# Altium footprint library CS1237.PcbLib: 1 footprints
Each footprint in its own frame and in the unit in brackets; x right, y up, seen from the top. Pads: shape width x height; smd on the part's side, far side on the other; paste and mask are expansions set on the pad; w line width, h text height; cw(c..) or ccw(c..) is an arc to the next point about the centre after c.
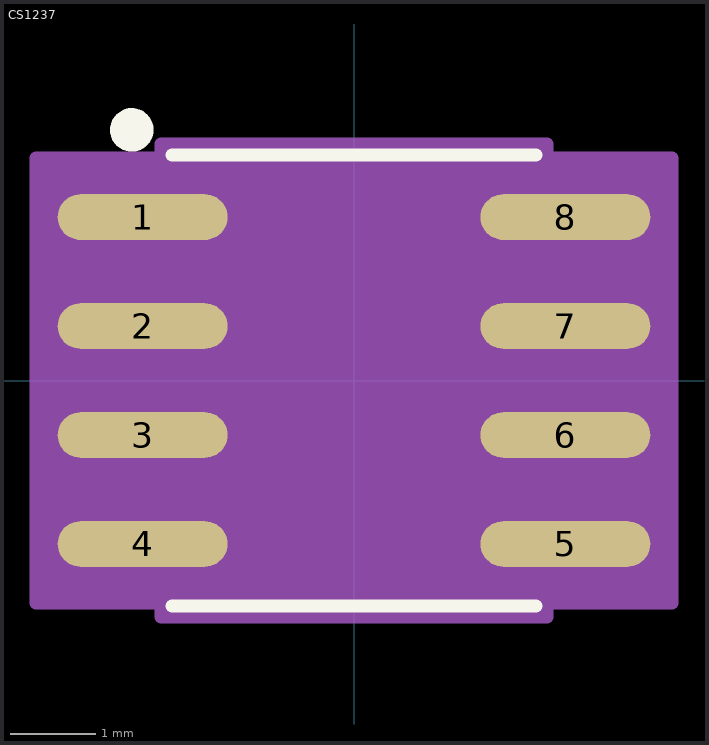
[diagram p0: the footprint, top view; thin cyan lines are the x and y axes]

## CS1237 [mil]
pads (8):
  oval 78x21 smd: 1(-97,75) 2(-97,25) 3(-97,-25) 4(-97,-75) 5(97,-75) 6(97,-25) 7(97,25) 8(97,75)
Top Overlay:
  circle w10: c-102,115 r5
  lines w6: -83.5,-103.5 83.5,-103.5 ; -83.5,103.5 83.5,103.5
Mechanical 13:
  lines w0: -12,98.5 ccw(c0,98.5) 12,98.5
Mechanical 15:
  region: -88.5,-102 -146,-102 -146,102 -88.5,102 -88.5,108.5 88.5,108.5 88.5,102 146,102 146,-102 88.5,-102 88.5,-108.5 -88.5,-108.5
  lines w6: -146,-102 -88.5,-102 -88.5,-108.5 88.5,-108.5 88.5,-102 146,-102 146,102 88.5,102 88.5,108.5 -88.5,108.5 -88.5,102 -146,102 -146,-102
3D body "SO-8_S.stp": height 69.01, standoff 0, extent -122,-98.5 122,98.5